# Altium footprint library cahrgebot_digital.PcbLib: 72 footprints (part 1 of 5)
Each footprint in its own frame and in the unit in brackets; x right, y up, seen from the top. Pads: shape width x height; smd on the part's side, far side on the other; paste and mask are expansions set on the pad; w line width, h text height; cw(c..) or ccw(c..) is an arc to the next point about the centre after c.
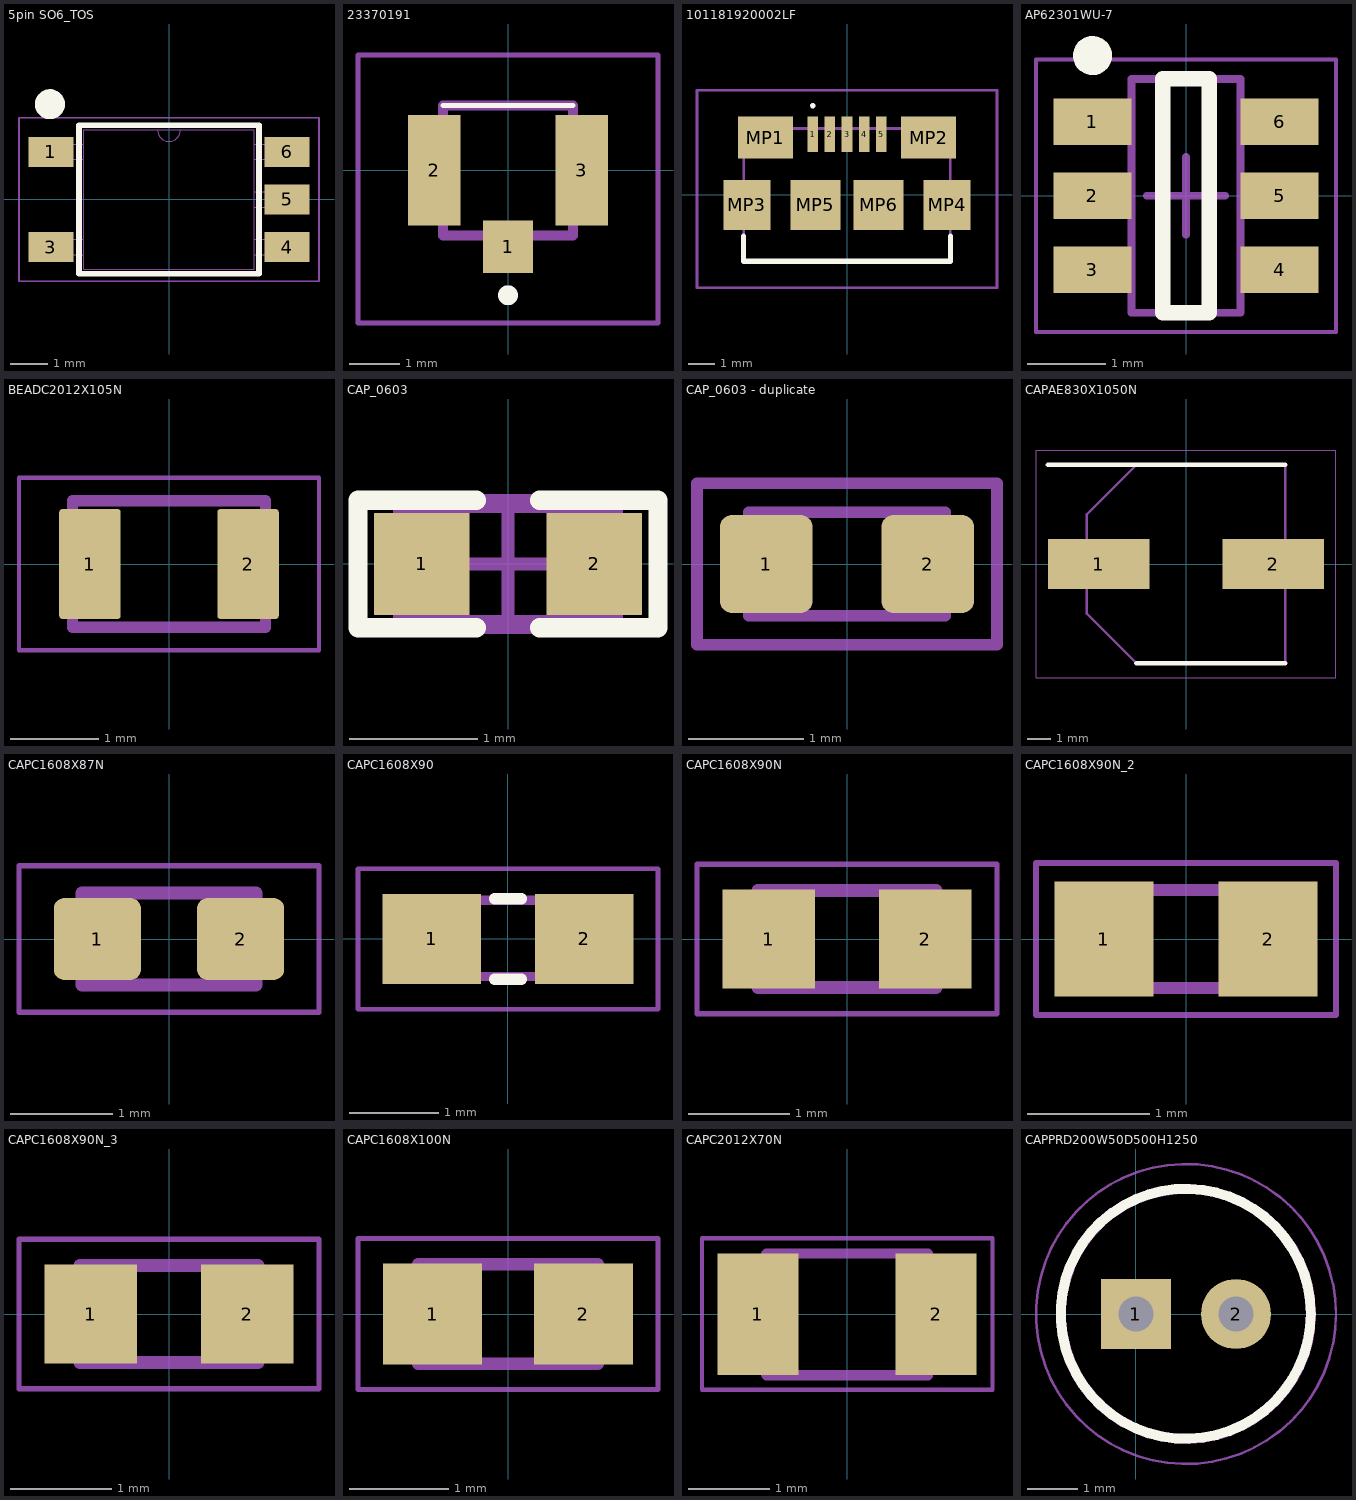
[diagram p0: the footprints below, top view; thin cyan lines are the x and y axes]

## 5pin SO6_TOS [mm]
height 2.2
pads (5):
  rect 1.2x0.8 smd paste+0 mask+0.076: 1(-3.15,1.27) 3(-3.15,-1.27) 4(3.15,-1.27) 5(3.15,0) 6(3.15,1.27)
Top Overlay:
  circle w0.4: c-3.175,2.54 r0.2
  lines w0.15: -2.4,-1.981 -2.4,1.981 2.4,1.981 2.4,-1.981 -2.4,-1.981
Top Component Outline:
  lines w0: -0.305,1.854 ccw(c0,1.854) 0.305,1.854
  lines w0.025: -3.696,-1.473 -2.273,-1.473 -2.273,-1.067 -3.696,-1.067 -3.696,-1.473 ; -3.696,1.067 -2.273,1.067 -2.273,1.473 -3.696,1.473 -3.696,1.067 ; -2.273,-1.854 -2.273,1.854 2.273,1.854 2.273,-1.854 -2.273,-1.854 ; 2.273,-1.473 3.696,-1.473 3.696,-1.067 2.273,-1.067 2.273,-1.473 ; 2.273,-0.203 3.696,-0.203 3.696,0.203 2.273,0.203 2.273,-0.203 ; 2.273,1.067 3.696,1.067 3.696,1.473 2.273,1.473 2.273,1.067
  text "*" at -2.006,0.823 h0.64
Top Courtyard:
  lines w0.05: -4,-2.181 4,-2.181 4,2.181 -4,2.181 -4,-2.181
Top Designator:
  text ".Designator" at -2.418,2.703 h1.52
3D body "5pin SO6.step": height 2.2, standoff 0, extent -3.5,-1.85 3.5,1.85

## 23370191 [mm]
pads (3):
  rect 1x1.05 smd: 1(0,-1.525)
  rect 1.05x2.2 smd: 2(-1.475,0) 3(1.475,0)
Top Overlay:
  lines w0.1: -1.3,1.3 1.3,1.3
  lines w0.2: -0.1,-2.5 cw(c0,-2.5) 0.1,-2.5 cw(c0,-2.5) -0.1,-2.5
Mechanical 13:
  lines w0.2: -1.3,-1.3 -1.3,1.3 1.3,1.3 1.3,-1.3 -1.3,-1.3
Mechanical 15:
  lines w0.1: -3,-3.05 -3,2.3 3,2.3 3,-3.05 -3,-3.05
3D body "2337019-1.stp": height 1.25, standoff 0, extent -1.5,-1.46 1.5,1.64

## 101181920002LF [mm]
pads (11):
  rect 0.4x1.35 smd: 1(-1.3,2.3) 2(-0.65,2.3) 3(0,2.3) 4(0.65,2.3) 5(1.3,2.3)
  rect 2.1x1.6 smd: MP1(-3.1,2.175) MP2(3.1,2.175)
  rect 1.8x1.9 smd: MP3(-3.8,-0.375) MP4(3.8,-0.375)
  rect 1.9x1.9 smd: MP5(-1.2,-0.375) MP6(1.2,-0.375)
Top Overlay:
  lines w0.1: -1.3,3.34 ccw(c-1.3,3.39) -1.3,3.44 ccw(c-1.3,3.39) -1.3,3.34
  lines w0.2: -3.93,-1.56 -3.93,-2.525 3.93,-2.525 3.93,-1.56
Mechanical 13:
  lines w0.1: -3.93,-2.525 3.93,-2.525 3.93,2.525 -3.93,2.525 -3.93,-2.525
Mechanical 15:
  lines w0.1: -5.7,-3.525 5.7,-3.525 5.7,3.975 -5.7,3.975 -5.7,-3.525
3D body "10118192-0002LF.stp": height 2.77, standoff 0, extent -3.957,-2.33 3.955,2.77

## AP62301WU-7 [mm]
pads (6):
  rect 1x0.6 smd: 1(-1.2,0.95) 2(-1.2,0) 3(-1.2,-0.95) 4(1.2,-0.95) 5(1.2,0) 6(1.2,0.95)
Top Overlay:
  circle w0.25: c-1.2,1.8 r0.125
  lines w0.2: -0.3,-1.5 0.3,-1.5 0.3,1.5 -0.3,1.5 -0.3,-1.5
Mechanical 13:
  lines w0.1: -0.7,-1.5 -0.7,1.5 0.7,1.5 0.7,-1.5 -0.7,-1.5
Mechanical 15:
  lines w0.05: -1.925,-1.75 -1.925,1.75 1.925,1.75 1.925,-1.75 -1.925,-1.75
  lines w0.1: -0.5,0 0.5,0 ; 0,-0.5 0,0.5
3D body "AP62301WU-7.step": height 1.1, standoff 0, extent -1.3,-1.5 1.3,1.5

## BEADC2012X105N [mm]
height 1.45
pads (2):
  rrect10% 0.7x1.25 smd mask+0.076: 1(-0.9,0) 2(0.9,0)
Top Component Outline:
  lines w0.127: -1,-0.72 1,-0.72 ; -1,0.72 1,0.72 ; -1.1,-0.72 1.1,-0.72 ; -1.1,-0.72 -1.1,0.72 ; -1.1,-0.72 -1.1,0.72 ; -1.1,0.72 1.1,0.72 ; 1.1,-0.72 1.1,0.72 ; 1.1,-0.72 1.1,0.72
Top Courtyard:
  lines w0.05: -1.708,-0.983 1.708,-0.983 1.708,0.983 -1.708,0.983 -1.708,-0.983
Top Designator:
  text ".Designator" at -3.216,1.395 h1.52
3D body "step_temp.STEP": height 1.05, standoff 0, extent -1,-0.625 1,0.625

## CAP_0603 [mm]
pads (2):
  rect 0.75x0.8 smd: 1(-0.675,0) 2(0.675,0)
Top Overlay:
  lines w0.152: -0.25,-0.5 -1.175,-0.5 -1.175,0.5 -0.25,0.5 ; 0.25,-0.5 1.175,-0.5 1.175,0.5 0.25,0.5
Mechanical 13:
  lines w0.1: -0.85,-0.45 -0.85,0.45 0.85,0.45 0.85,-0.45 -0.85,-0.45
Mechanical 15:
  lines w0.1: -0.45,0 0.45,0 ; 0,-0.45 0,0.45 ; -1.175,-0.5 -1.175,0.5 1.175,0.5 1.175,-0.5 -1.175,-0.5
3D body "User Library-SMD CAPACITOR.SLDPRT": height 0.78, standoff -0.02, extent -0.8,-0.4 0.8,0.4

## CAP_0603 - duplicate [mm]
height 0.9
pads (2):
  rrect25% 0.8x0.85 smd mask+0.076: 1(-0.7,0) 2(0.7,0)
Top Component Outline:
  lines w0.1: -0.85,-0.45 -0.85,0.45 0.85,0.45 0.85,-0.45 -0.85,-0.45
Top Courtyard:
  lines w0.1: -1.3,-0.7 -1.3,0.7 1.3,0.7 1.3,-0.7 -1.3,-0.7
Top Designator:
  text ".Designator" at -3.627,1.19 h1.52
3D body "User Library-SMD CAPACITOR.SLDPRT": height 0.78, standoff -0.02, extent -0.8,-0.4 0.8,0.4

## CAPAE830X1050N [mm]
pads (2):
  rect 4.25x2.1 smd: 1(-3.65,0) 2(3.65,0)
Top Overlay:
  lines w0.2: -5.775,4.15 4.15,4.15 ; -2.075,-4.15 4.15,-4.15
Mechanical 13:
  lines w0.1: -4.15,-2.075 -2.075,-4.15 4.15,-4.15 4.15,4.15 -2.075,4.15 -4.15,2.075 -4.15,-2.075
Mechanical 15:
  lines w0.05: -6.275,-4.75 -6.275,4.75 6.275,4.75 6.275,-4.75 -6.275,-4.75
3D body "EDH477M6R3A9MAA.stp": height 10.51, standoff 0, extent -5.25,-4.25 5.25,4.25

## CAPC1608X87N [mm]
height 0.87
pads (2):
  rrect25% 0.85x0.8 smd mask+0.076: 1(-0.7,0) 2(0.7,0)
Top Component Outline:
  lines w0.127: -0.85,-0.45 0.85,-0.45 0.85,0.45 -0.85,0.45 -0.85,-0.45
Top Courtyard:
  lines w0.05: -1.465,-0.715 1.465,-0.715 1.465,0.715 -1.465,0.715 -1.465,-0.715
Top Designator:
  text ".Designator" at -3.566,1.251 h1.52
3D body "step_temp.STEP": height 0.9, standoff 0, extent -0.857,-0.41 0.743,0.39

## CAPC1608X90 [mm]
pads (2):
  rect 1.1x1 smd: 1(-0.85,0) 2(0.85,0)
Top Overlay:
  lines w0.127: -0.15,-0.45 0.15,-0.45 ; -0.15,0.45 0.15,0.45
Mechanical 13:
  lines w0.102: -0.356,-0.419 0.356,-0.419 ; -0.356,0.432 0.356,0.432
Mechanical 15:
  lines w0.051: -1.673,-0.783 -1.673,0.783 1.673,0.783 1.673,-0.783 -1.673,-0.783
3D body "step_temp.STEP": height 0.9, standoff 0, extent -0.8,-0.4 0.8,0.4

## CAPC1608X90N [mm]
pads (2):
  rect 0.92x0.98 smd: 1(-0.775,0) 2(0.775,0)
Mechanical 13:
  lines w0.127: -0.88,-0.48 0.88,-0.48 0.88,0.48 -0.88,0.48 -0.88,-0.48
Mechanical 15:
  lines w0.05: -1.485,-0.74 1.485,-0.74 1.485,0.74 -1.485,0.74 -1.485,-0.74
3D body "step_temp.STEP": height 0.9, standoff 0, extent -0.8,-0.405 0.8,0.405

## CAPC1608X90N_2 [mm]
pads (2):
  rect 0.81x0.94 smd: 1(-0.67,0) 2(0.67,0)
Mechanical 13:
  lines w0.1: -0.8,-0.4 0.8,-0.4 0.8,0.4 -0.8,0.4 -0.8,-0.4
Mechanical 15:
  lines w0.05: -1.225,-0.62 1.225,-0.62 1.225,0.62 -1.225,0.62 -1.225,-0.62
3D body "JMK107ABJ106KAHT.stp": height 0.9, standoff 0, extent -0.8,-0.4 0.8,0.4

## CAPC1608X90N_3 [mm]
pads (2):
  rect 0.92x0.98 smd: 1(-0.775,0) 2(0.775,0)
Mechanical 13:
  lines w0.127: -0.88,-0.48 -0.88,0.48 0.88,0.48 0.88,-0.48 -0.88,-0.48
Mechanical 15:
  lines w0.05: -1.485,-0.74 -1.485,0.74 1.485,0.74 1.485,-0.74 -1.485,-0.74
3D body "step_temp.STEP": height 0.9, standoff 0, extent -0.8,-0.405 0.8,0.405

## CAPC1608X100N [mm]
pads (2):
  rect 1x1.02 smd: 1(-0.759,0) 2(0.759,0)
Mechanical 13:
  lines w0.127: -0.9,-0.5 0.9,-0.5 0.9,0.5 -0.9,0.5 -0.9,-0.5
Mechanical 15:
  lines w0.05: -1.508,-0.758 1.508,-0.758 1.508,0.758 -1.508,0.758 -1.508,-0.758
3D body "step_temp.STEP": height 1, standoff 0, extent -0.8,-0.4 0.8,0.4

## CAPC2012X70N [mm]
height 1
pads (2):
  rect 1x1.5 smd: 1(-1.1,0) 2(1.1,0)
Mechanical 13:
  lines w0.127: -1,-0.742 -0.999,0.745 ; -0.991,-0.75 1,-0.75 ; -0.991,0.75 0.998,0.75 ; 1,-0.745 1,0.738
Mechanical 15:
  lines w0.05: -1.789,-0.93 1.795,-0.93 1.795,0.938 -1.789,0.938 -1.789,-0.93
Top Designator:
  text ".designator" at -3.477,1.428 h1.52

## CAPPRD200W50D500H1250 [mm]
height 12.5
pads (2):
  rect 1.4x1.4 hole 0.7: 1(0,0)
  round 1.4 hole 0.7: 2(2,0)
Top Overlay:
  circle w0.2: c0.995,0.004 r2.5
Top Component Outline:
  circle w0.1: c1,0 r2.5
  circle w0.2: c1,0 r2.5
Top Courtyard:
  circle w0.05: c1,0 r3
Top Designator:
  text ".Designator" at -2.642,3.586 h1.52
3D body "ESH475M050AC3AA.stp": height 12.51, standoff -20, extent -1.75,-2.75 3.75,2.75